# Altium schematic symbol library SCH - MCU - STM32 - ST MICROELECTRONICS STM32H503RBTX LQFP64.SchLib: 1 symbol
Pins are listed as number, name and electrical type; pins without a type are passive.

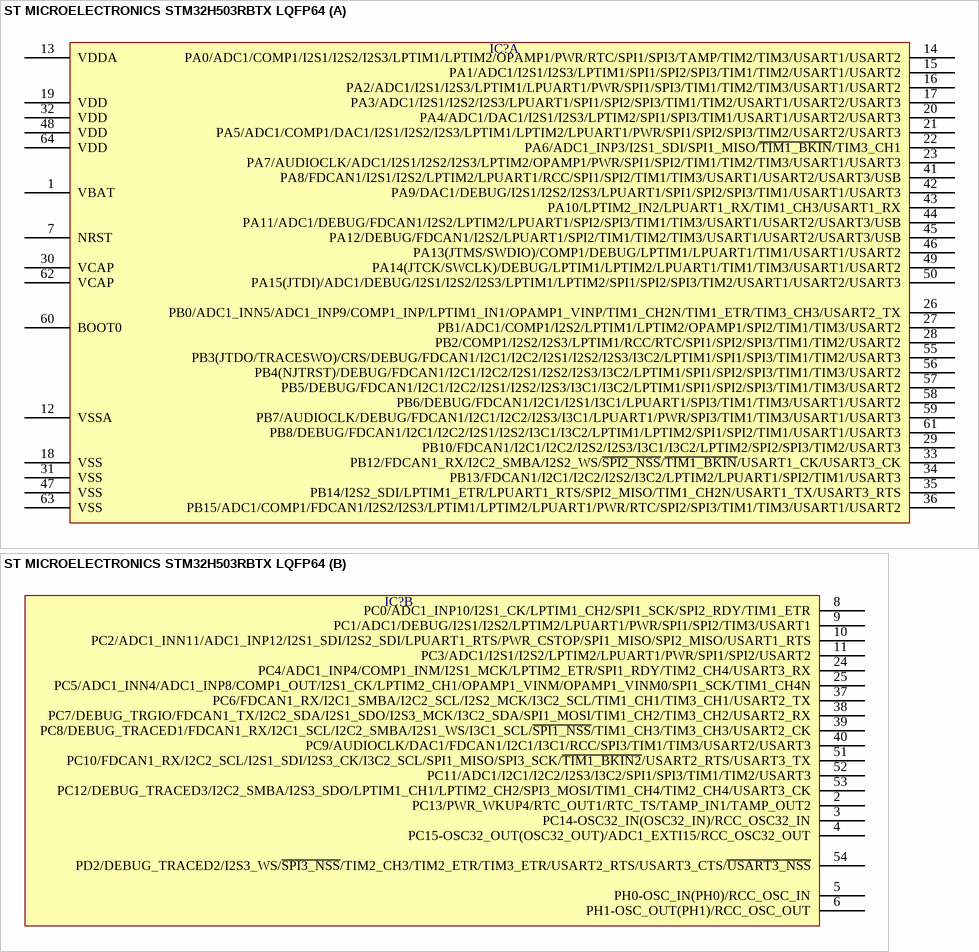
[diagram p0: symbol ST MICROELECTRONICS STM32H503RBTX LQFP64]

## ST MICROELECTRONICS STM32H503RBTX LQFP64
designator IC?  (value not drawn)
part A pins: 1 VBAT, 7 NRST, 12 VSSA, 13 VDDA, 14 PA0/ADC1/COMP1/I2S1/I2S2/I2S3/LPTIM1/LPTIM2/OPAMP1/PWR/RTC/SPI1/SPI3/TAMP/TIM2/TIM3/USART1/USART2, 15 PA1/ADC1/I2S1/I2S3/LPTIM1/SPI1/SPI2/SPI3/TIM1/TIM2/USART1/USART2, 16 PA2/ADC1/I2S1/I2S3/LPTIM1/LPUART1/PWR/SPI1/SPI3/TIM1/TIM2/TIM3/USART1/USART2, 17 PA3/ADC1/I2S1/I2S2/I2S3/LPUART1/SPI1/SPI2/SPI3/TIM1/TIM2/USART1/USART2/USART3, 18 VSS, 19 VDD, 20 PA4/ADC1/DAC1/I2S1/I2S3/LPTIM2/SPI1/SPI3/TIM1/USART1/USART2/USART3, 21 PA5/ADC1/COMP1/DAC1/I2S1/I2S2/I2S3/LPTIM1/LPTIM2/LPUART1/PWR/SPI1/SPI2/SPI3/TIM2/USART2/USART3, 22 PA6/ADC1_INP3/I2S1_SDI/SPI1_MISO/~{TIM1_BKIN}/TIM3_CH1, 23 PA7/AUDIOCLK/ADC1/I2S1/I2S2/I2S3/LPTIM2/OPAMP1/PWR/SPI1/SPI2/TIM1/TIM2/TIM3/USART1/USART3, 26 PB0/ADC1_INN5/ADC1_INP9/COMP1_INP/LPTIM1_IN1/OPAMP1_VINP/TIM1_CH2N/TIM1_ETR/TIM3_CH3/USART2_TX, 27 PB1/ADC1/COMP1/I2S2/LPTIM1/LPTIM2/OPAMP1/SPI2/TIM1/TIM3/USART2, 28 PB2/COMP1/I2S2/I2S3/LPTIM1/RCC/RTC/SPI1/SPI2/SPI3/TIM1/TIM2/USART2, 29 PB10/FDCAN1/I2C1/I2C2/I2S2/I2S3/I3C1/I3C2/LPTIM2/SPI2/SPI3/TIM2/USART3, 30 VCAP, 31 VSS, 32 VDD, 33 PB12/FDCAN1_RX/I2C2_SMBA/I2S2_WS/~{SPI2_NSS}/~{TIM1_BKIN}/USART1_CK/USART3_CK, 34 PB13/FDCAN1/I2C1/I2C2/I2S2/I3C2/LPTIM2/LPUART1/SPI2/TIM1/USART3, 35 PB14/I2S2_SDI/LPTIM1_ETR/LPUART1_RTS/SPI2_MISO/TIM1_CH2N/USART1_TX/USART3_RTS, 36 PB15/ADC1/COMP1/FDCAN1/I2S2/I2S3/LPTIM1/LPTIM2/LPUART1/PWR/RTC/SPI2/SPI3/TIM1/TIM3/USART1/USART2, 41 PA8/FDCAN1/I2S1/I2S2/LPTIM2/LPUART1/RCC/SPI1/SPI2/TIM1/TIM3/USART1/USART2/USART3/USB, 42 PA9/DAC1/DEBUG/I2S1/I2S2/I2S3/LPUART1/SPI1/SPI2/SPI3/TIM1/USART1/USART3, 43 PA10/LPTIM2_IN2/LPUART1_RX/TIM1_CH3/USART1_RX, 44 PA11/ADC1/DEBUG/FDCAN1/I2S2/LPTIM2/LPUART1/SPI2/SPI3/TIM1/TIM3/USART1/USART2/USART3/USB, 45 PA12/DEBUG/FDCAN1/I2S2/LPUART1/SPI2/TIM1/TIM2/TIM3/USART1/USART2/USART3/USB, 46 PA13(JTMS/SWDIO)/COMP1/DEBUG/LPTIM1/LPUART1/TIM1/USART1/USART2, 47 VSS, 48 VDD, 49 PA14(JTCK/SWCLK)/DEBUG/LPTIM1/LPTIM2/LPUART1/TIM1/TIM3/USART1/USART2, 50 PA15(JTDI)/ADC1/DEBUG/I2S1/I2S2/I2S3/LPTIM1/LPTIM2/SPI1/SPI2/SPI3/TIM2/USART1/USART2/USART3, 55 PB3(JTDO/TRACESWO)/CRS/DEBUG/FDCAN1/I2C1/I2C2/I2S1/I2S2/I2S3/I3C2/LPTIM1/SPI1/SPI3/TIM1/TIM2/USART3, 56 PB4(NJTRST)/DEBUG/FDCAN1/I2C1/I2C2/I2S1/I2S2/I2S3/I3C2/LPTIM1/SPI1/SPI2/SPI3/TIM1/TIM3/USART2, 57 PB5/DEBUG/FDCAN1/I2C1/I2C2/I2S1/I2S2/I2S3/I3C1/I3C2/LPTIM1/SPI1/SPI2/SPI3/TIM1/TIM3/USART2, 58 PB6/DEBUG/FDCAN1/I2C1/I2S1/I3C1/LPUART1/SPI3/TIM1/TIM3/USART1/USART2, 59 PB7/AUDIOCLK/DEBUG/FDCAN1/I2C1/I2C2/I2S3/I3C1/LPUART1/PWR/SPI3/TIM1/TIM3/USART1/USART3, 60 BOOT0, 61 PB8/DEBUG/FDCAN1/I2C1/I2C2/I2S1/I2S2/I3C1/I3C2/LPTIM1/LPTIM2/SPI1/SPI2/TIM1/USART1/USART3, 62 VCAP, 63 VSS, 64 VDD
part B pins: 2 PC13/PWR_WKUP4/RTC_OUT1/RTC_TS/TAMP_IN1/TAMP_OUT2, 3 PC14-OSC32_IN(OSC32_IN)/RCC_OSC32_IN, 4 PC15-OSC32_OUT(OSC32_OUT)/ADC1_EXTI15/RCC_OSC32_OUT, 5 PH0-OSC_IN(PH0)/RCC_OSC_IN, 6 PH1-OSC_OUT(PH1)/RCC_OSC_OUT, 8 PC0/ADC1_INP10/I2S1_CK/LPTIM1_CH2/SPI1_SCK/SPI2_RDY/TIM1_ETR, 9 PC1/ADC1/DEBUG/I2S1/I2S2/LPTIM2/LPUART1/PWR/SPI1/SPI2/TIM3/USART1, 10 PC2/ADC1_INN11/ADC1_INP12/I2S1_SDI/I2S2_SDI/LPUART1_RTS/PWR_CSTOP/SPI1_MISO/SPI2_MISO/USART1_RTS, 11 PC3/ADC1/I2S1/I2S2/LPTIM2/LPUART1/PWR/SPI1/SPI2/USART2, 24 PC4/ADC1_INP4/COMP1_INM/I2S1_MCK/LPTIM2_ETR/SPI1_RDY/TIM2_CH4/USART3_RX, 25 PC5/ADC1_INN4/ADC1_INP8/COMP1_OUT/I2S1_CK/LPTIM2_CH1/OPAMP1_VINM/OPAMP1_VINM0/SPI1_SCK/TIM1_CH4N, 37 PC6/FDCAN1_RX/I2C1_SMBA/I2C2_SCL/I2S2_MCK/I3C2_SCL/TIM1_CH1/TIM3_CH1/USART2_TX, 38 PC7/DEBUG_TRGIO/FDCAN1_TX/I2C2_SDA/I2S1_SDO/I2S3_MCK/I3C2_SDA/SPI1_MOSI/TIM1_CH2/TIM3_CH2/USART2_RX, 39 PC8/DEBUG_TRACED1/FDCAN1_RX/I2C1_SCL/I2C2_SMBA/I2S1_WS/I3C1_SCL/~{SPI1_NSS}/TIM1_CH3/TIM3_CH3/USART2_CK, 40 PC9/AUDIOCLK/DAC1/FDCAN1/I2C1/I3C1/RCC/SPI3/TIM1/TIM3/USART2/USART3, 51 PC10/FDCAN1_RX/I2C2_SCL/I2S1_SDI/I2S3_CK/I3C2_SCL/SPI1_MISO/SPI3_SCK/~{TIM1_BKIN2}/USART2_RTS/USART3_TX, 52 PC11/ADC1/I2C1/I2C2/I2S3/I3C2/SPI1/SPI3/TIM1/TIM2/USART3, 53 PC12/DEBUG_TRACED3/I2C2_SMBA/I2S3_SDO/LPTIM1_CH1/LPTIM2_CH2/SPI3_MOSI/TIM1_CH4/TIM2_CH4/USART3_CK, 54 PD2/DEBUG_TRACED2/I2S3_WS/~{SPI3_NSS}/TIM2_CH3/TIM2_ETR/TIM3_ETR/USART2_RTS/USART3_CTS/~{USART3_NSS}